# Altium integrated library BD139.IntLib: 1 symbol
Pins are listed as number, name and electrical type; pins without a type are passive.

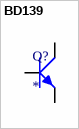
[diagram p0: symbol BD139]

## BD139
designator Q?
footprint TO126
pins: 1 B, 2 C, 3 E